# Altium schematic symbol library USB2244I.Schlib: 1 symbol
Pins are listed as number, name and electrical type; pins without a type are passive.

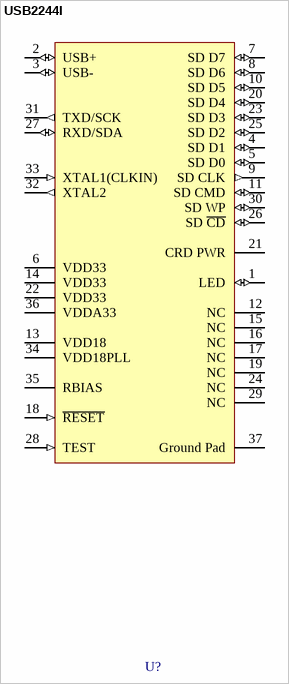
[diagram p0: symbol USB2244I]

## USB2244I
designator U?
Full Speed USB 2.0 to SD MMC Converter
pins: 1 LED (io), 2 USB+ (io), 3 USB- (io), 4 SD D1 (io), 5 SD D0 (io), 6 VDD33 (power), 7 SD D7 (io), 8 SD D6 (io), 9 SD CLK (out), 10 SD D5 (io), 11 SD CMD (io), 12 NC, 13 VDD18 (power), 14 VDD33 (power), 15 NC, 16 NC, 17 NC, 18 ~{RESET} (in), 19 NC, 20 SD D4 (io), 21 CRD PWR (power), 22 VDD33 (power), 23 SD D3 (io), 24 NC, 25 SD D2 (io), 26 SD ~{CD} (io), 27 RXD/SDA (io), 28 TEST (in), 29 NC, 30 SD WP (io), 31 TXD/SCK (out), 32 XTAL2 (out), 33 XTAL1(CLKIN) (in), 34 VDD18PLL (power), 35 RBIAS, 36 VDDA33 (power), 37 Ground Pad (power)